# EAGLE library part SENEV_SEGMENT_2BIT (library Xmaker)
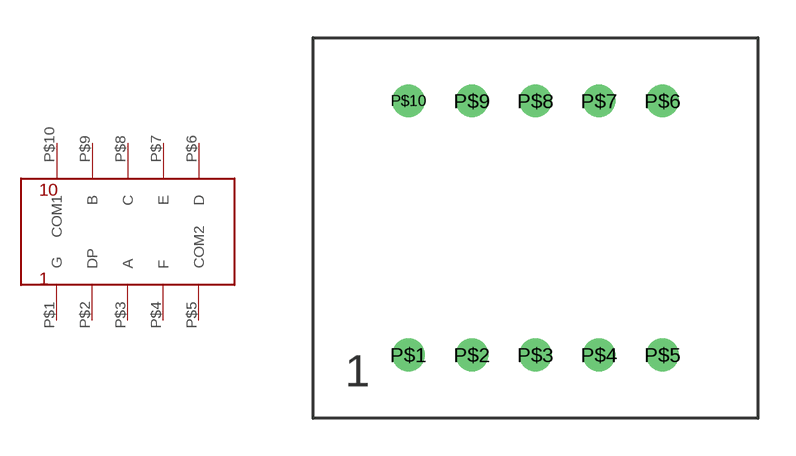
[diagram p0: symbol with the pads of SEVEN_SEGMENT_2BIT; footprint SEVEN_SEGMENT_2BIT]

Designator prefix -

## SENEV_SEGMENT_2BIT  [SEVEN_SEGMENT_2BIT]
P$1  G
P$2  DP
P$3  A
P$4  F
P$5  COM2
P$6  D
P$7  E
P$8  C
P$9  B
P$10  COM1

## Footprint SEVEN_SEGMENT_2BIT (pad centres in mm)
drill 0.8: P$1 0,0; P$2 2.54,0; P$3 5.08,0; P$4 7.62,0; P$5 10.16,0; P$6 10.16,10.16; P$7 7.62,10.16; P$8 5.08,10.16; P$9 2.54,10.16; P$10 0,10.16